# EAGLE library part TEENSY2-ARDUINO (library teensy2)
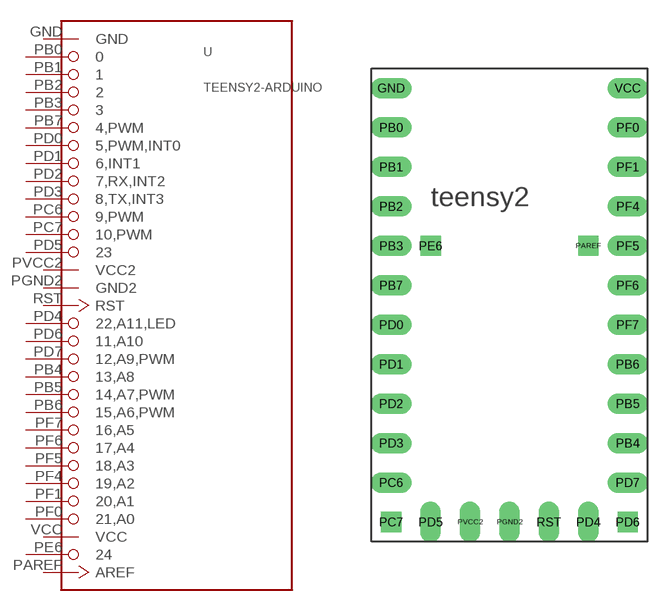
[diagram p1: symbol with the pads of TEENSY2; footprint TEENSY2]

Designator prefix -

## TEENSY2-ARDUINO  [TEENSY2]
GND  GND  pwr
PAREF  AREF  in
PB0  0
PB1  1
PB2  2
PB3  3
PB4  13,A8
PB5  14,A7,PWM
PB6  15,A6,PWM
PB7  4,PWM
PC6  9,PWM
PC7  10,PWM
PD0  5,PWM,INT0
PD1  6,INT1
PD2  7,RX,INT2
PD3  8,TX,INT3
PD4  22,A11,LED
PD5  23
PD6  11,A10
PD7  12,A9,PWM
PE6  24
PF0  21,A0
PF1  20,A1
PF4  19,A2
PF5  18,A3
PF6  17,A4
PF7  16,A5
PGND2  GND2  pwr
PVCC2  VCC2  pwr
RST  RST  in
VCC  VCC  pwr

## Footprint TEENSY2 (pad centres in mm)
http://pjrc.com/teensy/index.html
drill 0.8 long: GND -7.62,15.24; PB0 -7.62,12.7; PB1 -7.62,10.16; PB2 -7.62,7.62; PB3 -7.62,5.08; PB4 7.62,-7.62; PB5 7.62,-5.08; PB6 7.62,-2.54; PB7 -7.62,2.54; PC6 -7.62,-10.16; PD0 -7.62,0; PD1 -7.62,-2.54; PD2 -7.62,-5.08; PD3 -7.62,-7.62; PD4 5.08,-12.7; PD5 -5.08,-12.7; PD7 7.62,-10.16; PF0 7.62,12.7; PF1 7.62,10.16; PF4 7.62,7.62; PF5 7.62,5.08; PF6 7.62,2.54; PF7 7.62,0; PGND2 0,-12.7; PVCC2 -2.54,-12.7; RST 2.54,-12.7; VCC 7.62,15.24
drill 0.8 square: PAREF 5.08,5.08; PC7 -7.62,-12.7; PD6 7.62,-12.7; PE6 -5.08,5.08